# Altium footprint library CAPAE6353X58M_CE_C.PcbLib: 1 footprints
Each footprint in its own frame and in the unit in brackets; x right, y up, seen from the top. Pads: shape width x height; smd on the part's side, far side on the other; paste and mask are expansions set on the pad; w line width, h text height; cw(c..) or ccw(c..) is an arc to the next point about the centre after c.
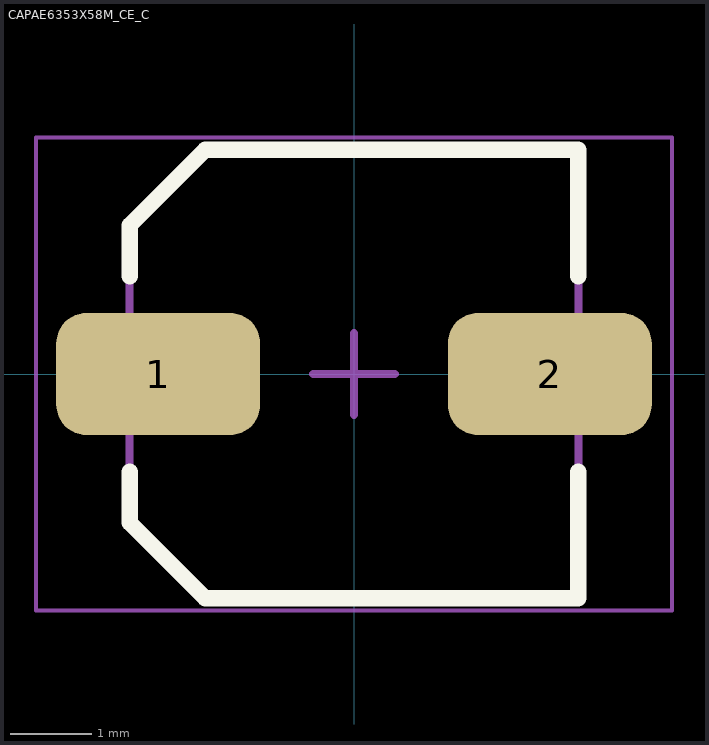
[diagram p0: the footprint, top view; thin cyan lines are the x and y axes]

## CAPAE6353X58M_CE_C [mm] "Aluminum Electrolytic Capacitor, Body 5.30x5.30x5.80mm, IPC Low Density"
height 5.8
pads (2):
  rrect50% 2.5x1.5 smd: 1(-2.4,0) 2(2.4,0)
Top Overlay:
  lines w0.2: -2.75,-1.2 -2.75,-1.825 -1.825,-2.75 2.75,-2.75 2.75,-1.2 ; -2.75,1.2 -2.75,1.825 -1.825,2.75 2.75,2.75 2.75,1.2
Top Assembly:
  lines w0.1: -2.75,-1.825 -1.825,-2.75 2.75,-2.75 2.75,2.75 -1.825,2.75 -2.75,1.825 -2.75,-1.825
Top Courtyard:
  lines w0.05: -3.9,-2.9 -3.9,2.9 3.9,2.9 3.9,-2.9 -3.9,-2.9
  lines w0.1: -0.5,0 0.5,0 ; 0,-0.5 0,0.5
3D body "CAPAE6353X58M_CE_C.step": height 5.8, standoff 0, extent -3.15,-2.75 3.15,2.75